# Altium footprint library BarelangRobotics.PcbLib: 67 footprints (part 4 of 5)
Each footprint in its own frame and in the unit in brackets; x right, y up, seen from the top. Pads: shape width x height; smd on the part's side, far side on the other; paste and mask are expansions set on the pad; w line width, h text height; cw(c..) or ccw(c..) is an arc to the next point about the centre after c.
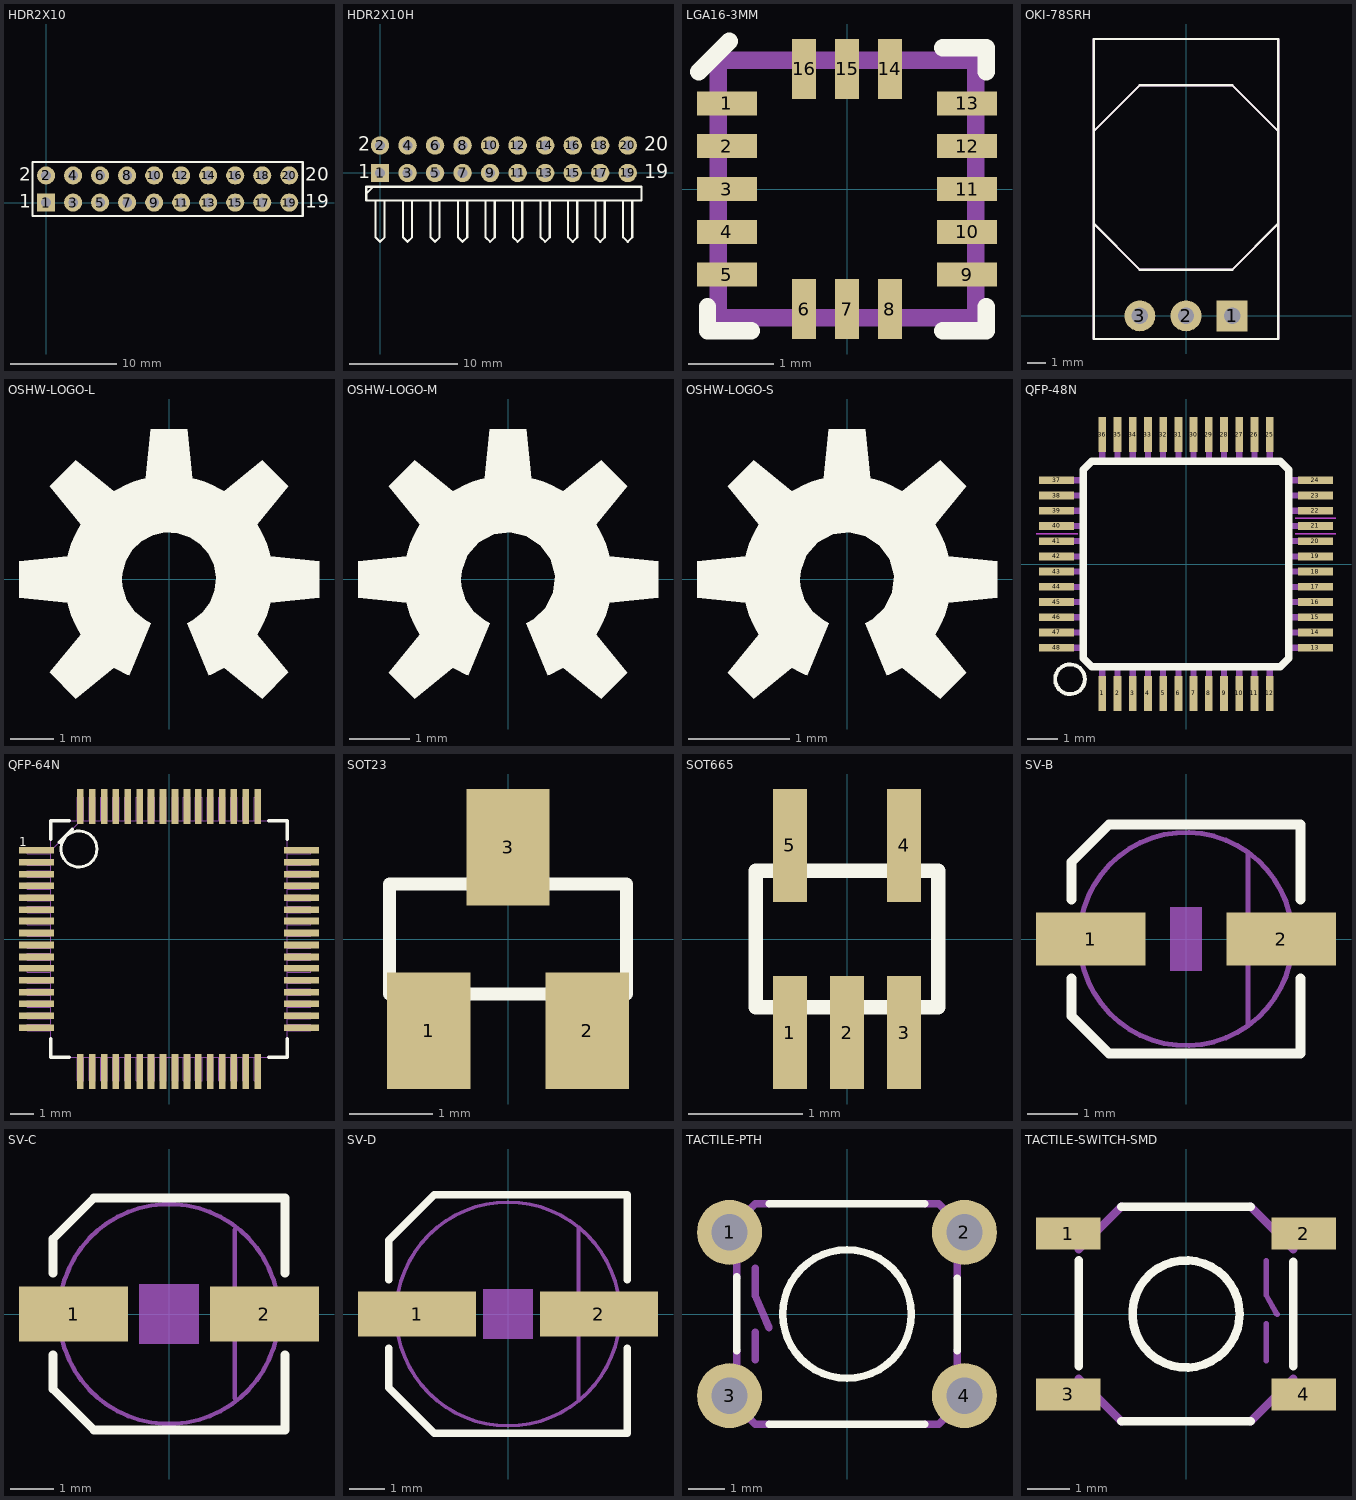
[diagram p3: the footprints below, top view; thin cyan lines are the x and y axes]

## HDR2X10 [mm] "Connector; Header; 10x2 Position"
pads (20):
  rect 1.7x1.7 hole 0.9: 1(0,0)
  round 1.7 hole 0.9: 2(0,2.54) 3(2.54,0) 4(2.54,2.54) 5(5.08,0) 6(5.08,2.54) 7(7.62,0) 8(7.62,2.54) 9(10.16,0) 10(10.16,2.54) 11(12.7,0) 12(12.7,2.54) 13(15.24,0) 14(15.24,2.54) 15(17.78,0) 16(17.78,2.54) 17(20.32,0) 18(20.32,2.54) 19(22.86,0) 20(22.86,2.54)
Top Overlay:
  lines w0.2: -1.27,-1.27 -1.27,3.81 0.635,3.81 24.13,3.81 24.13,-1.27 0.635,-1.27 -1.27,-1.27
  text "2" at -2.54,2.032 h1.27
  text "1" at -2.54,-0.508 h1.27
  text "19" at 24.384,-0.508 h1.27
  text "20" at 24.384,2.032 h1.27

## HDR2X10H [mm] "Connector; Header; 10x2 Position; Right Angle"
pads (20):
  rect 1.7x1.7 hole 0.9: 1(0,0)
  round 1.7 hole 0.9: 2(0,2.54) 3(2.54,0) 4(2.54,2.54) 5(5.08,0) 6(5.08,2.54) 7(7.62,0) 8(7.62,2.54) 9(10.16,0) 10(10.16,2.54) 11(12.7,0) 12(12.7,2.54) 13(15.24,0) 14(15.24,2.54) 15(17.78,0) 16(17.78,2.54) 17(20.32,0) 18(20.32,2.54) 19(22.86,0) 20(22.86,2.54)
Top Overlay:
  lines w0.2: -1.27,-1.905 -0.635,-1.27 ; -0.423,-2.54 -0.423,-5.927 0,-6.35 0.423,-5.927 0.423,-2.54 ; 2.117,-2.54 2.117,-5.927 2.54,-6.35 2.963,-5.927 2.963,-2.54 ; 4.657,-2.54 4.657,-5.927 5.08,-6.35 5.503,-5.927 5.503,-2.54 ; 7.197,-2.54 7.197,-5.927 7.62,-6.35 8.043,-5.927 8.043,-2.54 ; 9.737,-2.54 9.737,-5.927 10.16,-6.35 10.583,-5.927 10.583,-2.54 ; 12.277,-2.54 12.277,-5.927 12.7,-6.35 13.123,-5.927 13.123,-2.54 ; 14.817,-2.54 14.817,-5.927 15.24,-6.35 15.663,-5.927 15.663,-2.54 ; 17.357,-2.54 17.357,-5.927 17.78,-6.35 18.203,-5.927 18.203,-2.54 ; 19.897,-2.54 19.897,-5.927 20.32,-6.35 20.743,-5.927 20.743,-2.54 ; 22.437,-2.54 22.437,-5.927 22.86,-6.35 23.283,-5.927 23.283,-2.54 ; -1.27,-2.54 24.13,-2.54 24.13,-1.27 -1.27,-1.27 -1.27,-2.54
  text "20" at 24.384,2.032 h1.27
  text "19" at 24.384,-0.508 h1.27
  text "2" at -2.032,2.032 h1.27
  text "1" at -2.032,-0.508 h1.27

## LGA16-3MM [mm]
pads (16):
  rect 0.7x0.28 smd: 1(-1.4,1) 2(-1.4,0.5) 3(-1.4,0) 4(-1.4,-0.5) 5(-1.4,-1) 9(1.4,-1) 10(1.4,-0.5) 11(1.4,0) 12(1.4,0.5) 13(1.4,1)
  rect 0.28x0.7 smd: 6(-0.5,-1.4) 7(0,-1.4) 8(0.5,-1.4) 14(0.5,1.4) 15(0,1.4) 16(-0.5,1.4)
Top Overlay:
  lines w0.203: -1.728,1.369 -1.372,1.725 ; -1.627,-1.372 -1.627,-1.653 -1.119,-1.653 ; 1.116,-1.653 1.624,-1.653 1.624,-1.372 ; 1.116,1.649 1.624,1.649 1.624,1.369
Mechanical 16:
  lines w0.203: -1.5,-1.5 -1.5,1.5 1.5,1.5 1.5,-1.5 -1.5,-1.5

## OKI-78SRH [mm]
pads (3):
  rect 1.7x1.7 hole 0.9: 1(2.54,0)
  round 1.7 hole 0.9: 2(0,0) 3(-2.54,0)
Top Overlay:
  lines w0.127: -5.08,5.08 -5.08,10.16 ; -5.08,5.08 -2.54,2.54 2.54,2.54 5.08,5.08 ; -5.08,5.08 -5.08,-1.27 5.08,-1.27 5.08,5.08 ; -5.08,10.16 -2.54,12.7 2.54,12.7 5.08,10.16 ; -5.08,10.16 -5.08,15.24 5.08,15.24 5.08,10.16 ; 5.08,5.08 5.08,10.16
Mechanical 16:
  lines w0.127: -5.08,5.08 -2.54,2.54 2.54,2.54 5.08,5.08 ; -5.08,5.08 -5.08,-1.27 5.08,-1.27 5.08,5.08 ; -5.08,5.08 -5.08,10.16 ; -5.08,10.16 -2.54,12.7 2.54,12.7 5.08,10.16 ; -5.08,10.16 -5.08,15.24 5.08,15.24 5.08,10.16 ; 5.08,5.08 5.08,10.16

## OSHW-LOGO-L [mil]
Top Overlay:
  region: 36.26,-87.52 38.07,-86.77 41.63,-85.12 45.12,-83.32 48.54,-81.38 50.2,-80.34 84.83,-108.58 108.58,-84.83 80.34,-50.2 82.42,-46.87 86.02,-39.88 89.03,-32.62 91.43,-25.14 92.31,-21.31 136.77,-16.79 136.77,16.79 92.31,21.31 91.43,25.14 89.03,32.62 86.02,39.88 82.42,46.87 80.34,50.2 108.58,84.83 84.83,108.58 50.2,80.34 46.87,82.42 39.88,86.02 32.62,89.03 25.14,91.43 21.31,92.31 16.79,136.77 -16.79,136.77 -21.31,92.31 -25.14,91.43 -32.62,89.03 -39.88,86.02 -46.87,82.42 -50.2,80.34 -84.83,108.58 -108.58,84.83 -80.34,50.2 -82.42,46.87 -86.02,39.88 -89.03,32.62 -91.43,25.14 -92.31,21.31 -136.77,16.79 -136.77,-16.79 -92.31,-21.31 -91.43,-25.14 -89.03,-32.62 -86.02,-39.88 -82.42,-46.87 -80.34,-50.2 -108.58,-84.83 -84.83,-108.58 -50.2,-80.34 -48.54,-81.38 -45.12,-83.32 -41.63,-85.12 -38.07,-86.77 -36.26,-87.52 -16.48,-39.78 -22.14,-36.93 -31.91,-28.92 -38.93,-18.41 -42.59,-6.32 -43.06,0 -42.67,5.79 -39.58,16.96 -33.62,26.91 -25.23,34.9 -15,40.36 -3.7,42.9 7.88,42.33 18.88,38.7 28.52,32.26 36.09,23.48 41.05,13.01 43.03,1.59 41.89,-9.95 37.72,-20.76 30.82,-30.07 21.68,-37.2 16.48,-39.78

## OSHW-LOGO-M [mil]
Top Overlay:
  region: 25.9,-62.52 27.2,-61.98 29.74,-60.8 32.23,-59.52 34.67,-58.13 35.86,-57.39 60.6,-77.56 77.56,-60.6 57.39,-35.86 58.88,-33.48 61.44,-28.49 63.59,-23.3 65.3,-17.95 65.93,-15.22 97.69,-12 97.69,12 65.93,15.22 65.3,17.95 63.59,23.3 61.44,28.49 58.88,33.48 57.39,35.86 77.56,60.6 60.6,77.56 35.86,57.39 33.48,58.88 28.49,61.44 23.3,63.59 17.95,65.3 15.22,65.93 12,97.69 -12,97.69 -15.22,65.93 -17.95,65.3 -23.3,63.59 -28.49,61.44 -33.48,58.88 -35.86,57.39 -60.6,77.56 -77.56,60.6 -57.39,35.86 -58.88,33.48 -61.44,28.49 -63.59,23.3 -65.3,17.95 -65.93,15.22 -97.69,12 -97.69,-12 -65.93,-15.22 -65.3,-17.95 -63.59,-23.3 -61.44,-28.49 -58.88,-33.48 -57.39,-35.86 -77.56,-60.6 -60.6,-77.56 -35.86,-57.39 -34.67,-58.13 -32.23,-59.52 -29.74,-60.8 -27.2,-61.98 -25.9,-62.52 -11.77,-28.42 -15.81,-26.39 -22.79,-20.66 -27.81,-13.15 -30.43,-4.51 -30.76,0 -30.26,5.51 -26.38,15.81 -19.12,24.09 -9.41,29.28 1.51,30.72 12.23,28.22 21.39,22.1 27.81,13.15 30.66,2.51 29.58,-8.45 24.71,-18.33 16.67,-25.85 11.77,-28.42

## OSHW-LOGO-S [mil]
Top Overlay:
  region: 15.54,-37.51 16.32,-37.19 17.85,-36.48 19.34,-35.71 20.81,-34.88 21.52,-34.43 36.36,-46.54 46.54,-36.36 34.43,-21.52 35.32,-20.09 36.87,-17.09 38.15,-13.98 39.18,-10.77 39.56,-9.13 58.61,-7.2 58.61,7.2 39.56,9.13 39.18,10.77 38.15,13.98 36.87,17.09 35.32,20.09 34.43,21.52 46.54,36.36 36.36,46.54 21.52,34.43 20.09,35.32 17.09,36.87 13.98,38.15 10.77,39.18 9.13,39.56 7.2,58.61 -7.2,58.61 -9.13,39.56 -10.77,39.18 -13.98,38.15 -17.09,36.87 -20.09,35.32 -21.52,34.43 -36.36,46.54 -46.54,36.36 -34.43,21.52 -35.32,20.09 -36.87,17.09 -38.15,13.98 -39.18,10.77 -39.56,9.13 -58.61,7.2 -58.61,-7.2 -39.56,-9.13 -39.18,-10.77 -38.15,-13.98 -36.87,-17.09 -35.32,-20.09 -34.43,-21.52 -46.54,-36.36 -36.36,-46.54 -21.52,-34.43 -20.81,-34.88 -19.34,-35.71 -17.85,-36.48 -16.32,-37.19 -15.54,-37.51 -7.06,-17.05 -9.49,-15.83 -13.68,-12.39 -16.69,-7.89 -18.26,-2.71 -18.46,0 -18.16,3.3 -15.83,9.49 -11.48,14.45 -5.65,17.57 0.9,18.43 7.33,16.93 12.83,13.26 16.67,7.89 18.38,1.51 17.74,-5.07 14.82,-10.99 10,-15.51 7.06,-17.05

## QFP-48N [mil]
pads (48):
  rect 10x45 smd: 1(-108.27,-167.32) 2(-88.58,-167.32) 3(-68.9,-167.32) 4(-49.21,-167.32) 5(-29.53,-167.32) 6(-9.84,-167.32) 7(9.84,-167.32) 8(29.53,-167.32) 9(49.21,-167.32) 10(68.9,-167.32) 11(88.58,-167.32) 12(108.27,-167.32) 25(108.27,167.32) 26(88.58,167.32) 27(68.9,167.32) 28(49.21,167.32) 29(29.53,167.32) 30(9.84,167.32) 31(-9.84,167.32) 32(-29.53,167.32) 33(-49.21,167.32) 34(-68.9,167.32) 35(-88.58,167.32) 36(-108.27,167.32)
  rect 45x10 smd: 13(167.32,-108.27) 14(167.32,-88.58) 15(167.32,-68.9) 16(167.32,-49.21) 17(167.32,-29.53) 18(167.32,-9.84) 19(167.32,9.84) 20(167.32,29.53) 21(167.32,49.21) 22(167.32,68.9) 23(167.32,88.58) 24(167.32,108.27) 37(-167.32,108.27) 38(-167.32,88.58) 39(-167.32,68.9) 40(-167.32,49.21) 41(-167.32,29.53) 42(-167.32,9.84) 43(-167.32,-9.84) 44(-167.32,-29.53) 45(-167.32,-49.21) 46(-167.32,-68.9) 47(-167.32,-88.58) 48(-167.32,-108.27)
Top Overlay:
  circle w5: c-150,-149 r19.21
  lines w10: -132.87,-122.05 -132.87,122.05 -122.05,132.87 122.05,132.87 132.87,122.05 132.87,-122.05 122.05,-132.87 -122.05,-132.87 -132.87,-122.05
Mechanical 8 keep-out:
  rectangle: -194,38 -140,40
  rectangle: 141,38 194,40
  rectangle: 141,58 194,60
Mechanical 16:
  rectangle: -177.17,-112.2 -135.83,-104.33
  rectangle: -177.17,-92.52 -135.83,-84.65
  rectangle: -177.17,-72.83 -135.83,-64.96
  rectangle: -177.17,-53.15 -135.83,-45.28
  rectangle: -177.17,-33.46 -135.83,-25.59
  rectangle: -177.17,-13.78 -135.83,-5.91
  rectangle: -177.17,5.91 -135.83,13.78
  rectangle: -177.17,25.59 -135.83,33.46
  rectangle: -177.17,45.28 -135.83,53.15
  rectangle: -177.17,64.96 -135.83,72.83
  rectangle: -177.17,84.65 -135.83,92.52
  rectangle: -177.17,104.33 -135.83,112.2
  rectangle: -112.2,135.83 -104.33,177.17
  rectangle: -92.52,135.83 -84.65,177.17
  rectangle: -72.83,135.83 -64.96,177.17
  rectangle: -53.15,135.83 -45.28,177.17
  rectangle: -33.46,135.83 -25.59,177.17
  rectangle: -13.78,135.83 -5.91,177.17
  rectangle: 5.91,135.83 13.78,177.17
  rectangle: 25.59,135.83 33.46,177.17
  rectangle: 45.28,135.83 53.15,177.17
  rectangle: 64.96,135.83 72.83,177.17
  rectangle: 84.65,135.83 92.52,177.17
  rectangle: 104.33,135.83 112.2,177.17
  rectangle: 135.83,104.33 177.17,112.2
  rectangle: 135.83,84.65 177.17,92.52
  rectangle: 135.83,64.96 177.17,72.83
  rectangle: 135.83,45.28 177.17,53.15
  rectangle: 135.83,25.59 177.17,33.46
  rectangle: 135.83,5.91 177.17,13.78
  rectangle: 135.83,-13.78 177.17,-5.91
  rectangle: 135.83,-33.46 177.17,-25.59
  rectangle: 135.83,-53.15 177.17,-45.28
  rectangle: 135.83,-72.83 177.17,-64.96
  rectangle: 135.83,-92.52 177.17,-84.65
  rectangle: 135.83,-112.2 177.17,-104.33
  rectangle: 104.33,-177.17 112.2,-135.83
  rectangle: 84.65,-177.17 92.52,-135.83
  rectangle: 64.96,-177.17 72.83,-135.83
  rectangle: 45.28,-177.17 53.15,-135.83
  rectangle: 25.59,-177.17 33.46,-135.83
  rectangle: 5.91,-177.17 13.78,-135.83
  rectangle: -13.78,-177.17 -5.91,-135.83
  rectangle: -33.46,-177.17 -25.59,-135.83
  rectangle: -53.15,-177.17 -45.28,-135.83
  rectangle: -72.83,-177.17 -64.96,-135.83
  rectangle: -92.52,-177.17 -84.65,-135.83
  rectangle: -112.2,-177.17 -104.33,-135.83

## QFP-64N [mil]
pads (64):
  rect 58x11 smd: 1(-221,148) 2(-221,128) 3(-221,108) 4(-221,89) 5(-221,69) 6(-221,49) 7(-221,30) 8(-221,10) 9(-221,-10) 10(-221,-30) 11(-221,-49) 12(-221,-69) 13(-221,-89) 14(-221,-108) 15(-221,-128) 16(-221,-148) 33(221,-148) 34(221,-128) 35(221,-108) 36(221,-89) 37(221,-69) 38(221,-49) 39(221,-30) 40(221,-10) 41(221,10) 42(221,30) 43(221,49) 44(221,69) 45(221,89) 46(221,108) 47(221,128) 48(221,148)
  rect 11x58 smd: 17(-148,-221) 18(-128,-221) 19(-108,-221) 20(-89,-221) 21(-69,-221) 22(-49,-221) 23(-30,-221) 24(-10,-221) 25(10,-221) 26(30,-221) 27(49,-221) 28(69,-221) 29(89,-221) 30(108,-221) 31(128,-221) 32(148,-221) 49(148,221) 50(128,221) 51(108,221) 52(89,221) 53(69,221) 54(49,221) 55(30,221) 56(10,221) 57(-10,221) 58(-30,221) 59(-49,221) 60(-69,221) 61(-89,221) 62(-108,221) 63(-128,221) 64(-148,221)
Top Overlay:
  circle w5: c-150,150 r30
  lines w6: -197,-166 -197,-197 -166,-197 ; -197,166 -197,197 -166,197 ; -183,161 -161,183 ; 166,-197 197,-197 197,-166 ; 166,197 197,197 197,166
  text "1" at -250,150 h24.8
Mechanical 16:
  drawing of 330 lines, arcs and shapes, not listed

## SOT23 [mm]
pads (3):
  rect 1x1.4 smd: 1(-0.95,-1.1) 2(0.95,-1.1) 3(0,1.1)
Top Overlay:
  lines w0.152: -1.422,-0.66 1.422,-0.66 1.422,0.66 -1.422,0.66 -1.422,-0.66
Mechanical 16:
  rectangle: -0.229,0.711 0.229,1.295
  rectangle: 0.711,-1.295 1.168,-0.711
  rectangle: -1.168,-1.295 -0.711,-0.711

## SOT665 [mil]
pads (5):
  rect 11.81x38.98 smd: 1(-19.69,-32.28) 2(0,-32.28) 3(19.69,-32.28) 4(19.69,32.28) 5(-19.69,32.28)
Top Overlay:
  lines w5: -31.5,-23.62 -31.5,23.62 31.5,23.62 31.5,-23.62 -31.5,-23.62

## SV-B [mil]
pads (2):
  rect 86x42 smd: 1(-75,0) 2(75,0)
Top Overlay:
  lines w8: -90.01,-31.25 -90.01,-60.63 -60.63,-90.01 90.01,-90.01 90.01,-31.25 ; -90.01,31.25 -90.01,60.63 -60.63,90.01 90.01,90.01 90.01,31.25
Mechanical 6:
  rectangle: -12.5,-25 12.5,25
Mechanical 16:
  circle w4: c0,0 r83.85
  rectangle: -106.25,-12.5 -81.25,12.5
  rectangle: 81.25,-12.5 106.25,12.5
  lines w4: 48.82,-66.93 48.82,66.93

## SV-C [mil]
pads (2):
  rect 100x50 smd: 1(-87.5,0) 2(87.5,0)
Top Overlay:
  lines w8: -106.25,-37.5 -106.25,-68.75 -68.75,-106.25 106.25,-106.25 106.25,-37.5 ; -106.25,37.5 -106.25,68.75 -68.75,106.25 106.25,106.25 106.25,37.5
Mechanical 6:
  rectangle: -27.56,-27.56 27.56,27.56
Mechanical 16:
  circle w4: c0,0 r100.78
  rectangle: -125,-12.5 -100,12.5
  rectangle: 100,-12.5 125,12.5
  lines w4: 60.38,-77.12 60.38,77.11

## SV-D [mil]
pads (2):
  rect 130x50 smd: 1(-100,0) 2(100,0)
Top Overlay:
  lines w8: -131.25,-37.5 -131.25,-81.25 -81.25,-131.25 131.25,-131.25 131.25,-37.5 ; -131.25,37.5 -131.25,81.25 -81.25,131.25 131.25,131.25 131.25,37.5
Mechanical 6:
  rectangle: -27.56,-27.56 27.56,27.56
Mechanical 16:
  circle w4: c0,0 r123.11
  rectangle: -150,-12.5 -125,12.5
  rectangle: 125,-12.5 150,12.5
  lines w4: 77.51,-94.49 77.51,94.49

## TACTILE-PTH [mm]
pads (4):
  round 1.8 hole 1: 1(-3.251,2.261) 2(3.251,2.261) 3(-3.251,-2.261) 4(3.251,-2.261)
Top Overlay:
  circle w0.203: c0,0 r1.778
  lines w0.203: -3.048,-1.016 -3.048,1.028 ; -2.159,-3.048 2.159,-3.048 ; -2.159,3.048 2.159,3.048 ; 3.048,-1.016 3.048,0.998
Mechanical 16:
  lines w0.203: -3.048,-1.016 -3.048,-2.54 -2.54,-3.048 -2.159,-3.048 ; -3.048,1.016 -3.048,2.54 -2.54,3.048 -2.159,3.048 ; -2.54,-1.27 -2.54,-0.508 ; -2.54,1.27 -2.54,0.508 -2.159,-0.381 ; 2.159,-3.048 2.54,-3.048 3.048,-2.54 3.048,-1.016 ; 2.159,3.048 2.54,3.048 3.048,2.54 3.048,1.016

## TACTILE-SWITCH-SMD [mil]
pads (4):
  rect 60x30 smd: 1(-110,75) 2(110,75) 3(-110,-75) 4(110,-75)
Top Overlay:
  circle w8: c0,0 r50
  lines w8: -100,-48.82 -100,50 ; -60.63,-100 60.63,-100 ; -60.63,100 60.63,100 ; 100,-48.82 100,48.82
Mechanical 16:
  lines w5: 75,-43.9 75,-9.06 ; 75,50 75,17.52 85.04,-0.39
  lines w8: -100,-60.63 -60.63,-100 ; -100,60.63 -60.63,100 ; 60.63,-100 100,-60.63 ; 60.63,100 100,60.63